# Altium schematic symbol library charger.SchLib: 4 symbols
Pins are listed as number, name and electrical type; pins without a type are passive.

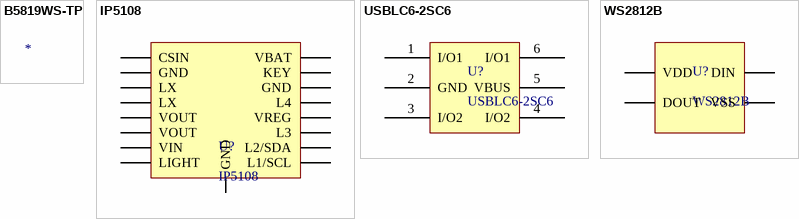
[diagram p0: symbols B5819WS-TP to WS2812B]

## B5819WS-TP
designator *  (value not drawn)
DIODE SCHOTTKY 40V 1A SOD323; Manufacturer: MCC; Manufacturer Part Number: B5819WS-TP; Forward Voltage: 900mV; Element Configuration: Single; Max Reverse Leakage Current: 1mA; Peak Non-Repetitive Surge Current: 10A; Supplier 1: Mouser; RoHS: Yes; Category: Rectifier Diodes; Stock 1: 4684; Pricing 1: 1=0,39000, 10=0,25300, 50=0,25300, 100=0,11200, 1000=0,08300, 10000=0,05600 (USD); Mount: Surface Mount; Number of Pins: 2; Min Operating Temperature: -65°C; Max Operating Temperature: 125°C; Average Rectified Current: 1A; Package Quantity: 1; Packaging: Tape and Reel; Max Reverse Voltage (DC): 40V; Max Surge Current: 10A; Radiation Hardening: No; Lead Free: Lead Free; ComponentLink1URL: https://datasheet.ciiva.com/4715/b5817ws-b5819wssod-323-48861-4715941.pdf?src-supplier=Mouser; ComponentLink1Description: https://datasheet.ciiva.com/4715/b5817ws-b5819wssod-323-48861-4715941.pdf?src-supplier=Mouser; ComponentLink2URL: https://datasheet.ciiva.com/912/b5817ws-b5819wssod-323-912736.pdf?src-supplier=Digi-Key; ComponentLink2Description: https://datasheet.ciiva.com/912/b5817ws-b5819wssod-323-912736.pdf?src-supplier=Digi-Key; ComponentLink3URL: https://datasheet.ciiva.com/912/b5817ws-b5819wssod-323-912737.pdf?src-supplier=Digi-Key; ComponentLink3Description: https://datasheet.ciiva.com/912/b5817ws-b5819wssod-323-912737.pdf?src-supplier=Digi-Key; ComponentLink4URL: https://datasheet.ciiva.com/15200/getdatasheetpartid-184930-15200423.pdf?src-supplier=Verical; ComponentLink4Description: https://datasheet.ciiva.com/15200/getdatasheetpartid-184930-15200423.pdf?src-supplier=Verical; ComponentLink5URL: https://datasheet.ciiva.com/912/b5817ws-b5819wssod-323-912735.pdf?src-supplier=Digi-Key; ComponentLink5Description: https://datasheet.ciiva.com/912/b5817ws-b5819wssod-323-912735.pdf?src-supplier=Digi-Key; Supplier Part Number 1: 833-B5819WS-TP

## IP5108
designator U?
SOP-16_150mil PMIC - Battery Management RoHS; Manufacturer: INJOINIC; ComponentLink3Description: LCSC LINK; ComponentLink3URL: https://lcsc.com/product-detail/PMIC-Battery-Management_INJOINIC-IP5108_C180943.html; ComponentLink4Description: Datasheet; ComponentLink4URL: http://www.injoinic.com/wwwroot/uploads/files/20200221/5edb08a79152c9ee2ca8ea29a5d5ad25.pdf; Category: Battery Management; Package: SOP-16_150mil; RoHS: YES; LCSC Part #: C180943; Mfr.Part #: IP5108
footprint SOP-16_150mil (SOP, 16-Leads, Body 9,90x3,90mm, Pitch 1,27mm, Thermal Pad 4,57x2,41mm, IPC Medium Density)
pins: 1 CSIN, 2 GND, 3 LX, 4 LX, 5 VOUT, 6 VOUT, 7 VIN, 8 LIGHT, 9 L1/SCL, 10 L2/SDA, 11 L3, 12 VREG, 13 L4, 14 GND, 15 KEY, 16 VBAT, 17 GND

## USBLC6-2SC6
designator U?
USBLC6 Series 4 Line 6 V Uni / Bi-Directional ESD Protection - SOT-23-6; Manufacturer: STMicroelectronics; Capacitance: 4pF; Direction: Unidirectional; Clamping Voltage: 17V; Number of Bidirectional Channels: 4; Reverse Standoff Voltage: 5V; Min Breakdown Voltage: 6V; Power Line Protection: Yes; Leakage Current: 150nA; Peak Pulse Current: 5A; Operating Supply Voltage: 860mV; Test Current: 1mA; Max Reverse Leakage Current: 2uA; Number of Elements: 1; Polarity: Unidirectional,Bidirectional; Max Breakdown Voltage: 10V; Supplier 1: Avnet; Manufacturer Part Number: USBLC6-2SC6; RoHS: Yes; Category: ESD and Circuit Protection ICs; Stock 1: 147000; Pricing 1: 3000=0,24113, 6000=0,23936, 12000=0,23732, 18000=0,23404, 24000=0,23049, 30000=0,22872, 300000=0,22694 (USD); Mount: Surface Mount; Case/Package: SOT-23; Number of Pins: 6; Contact Plating: Tin,Matte; Weight: 0.01lb; Min Operating Temperature: -40°C; Max Operating Temperature: 125°C; Package Quantity: 3000; Packaging: Tape and Reel; Number of Channels: 4; Breakdown Voltage: 6V; Termination: SMD/SMT; ESD Protection: Yes; Reverse Breakdown Voltage: 6V; Working Voltage: 5V; Voltage Rating (DC): 5V; Length: 3mm; Width: 1.75mm; Height: 1.3mm; Depth: 1.75mm; Radiation Hardening: No; Lead Free: Lead Free; REACH SVHC: No SVHC; ComponentLink1URL: https://datasheet.ciiva.com/16206/cd00047494-16206119.pdf?src-supplier=Future+Electronics; ComponentLink1Description: https://datasheet.ciiva.com/16206/cd00047494-16206119.pdf?src-supplier=Future+Electronics; ComponentLink2URL: https://datasheet.ciiva.com/14186/usblc6-4-st-eng-tds-14186570.pdf?src-supplier=Distrelec; ComponentLink2Description: https://datasheet.ciiva.com/14186/usblc6-4-st-eng-tds-14186570.pdf?src-supplier=Distrelec; ComponentLink3URL: https://datasheet.ciiva.com/4507/cd00047494-112581-4507757.pdf?src-supplier=Mouser; ComponentLink3Description: https://datasheet.ciiva.com/4507/cd00047494-112581-4507757.pdf?src-supplier=Mouser; ComponentLink4URL: https://datasheet.ciiva.com/27052/1493951-27052291.pdf?src-supplier=Jameco; ComponentLink4Description: https://datasheet.ciiva.com/27052/1493951-27052291.pdf?src-supplier=Jameco; ComponentLink5URL: https://datasheet.ciiva.com/15143/getdatasheetpartid-88767-15143364.pdf?src-supplier=Verical; ComponentLink5Description: https://datasheet.ciiva.com/15143/getdatasheetpartid-88767-15143364.pdf?src-supplier=Verical; ComponentLink6URL: https://datasheet.ciiva.com/1220/48344-1220005.pdf?src-supplier=Newark; ComponentLink6Description: https://datasheet.ciiva.com/1220/48344-1220005.pdf?src-supplier=Newark; ComponentLink7URL: https://datasheet.ciiva.com/26787/usblc6-4sc6-26787917.pdf?src-supplier=IIIC; ComponentLink7Description: https://datasheet.ciiva.com/26787/usblc6-4sc6-26787917.pdf?src-supplier=IIIC; ComponentLink8URL: https://datasheet.ciiva.com/22692/1498406-22692454.pdf?src-supplier=Element14; ComponentLink8Description: https://datasheet.ciiva.com/22692/1498406-22692454.pdf?src-supplier=Element14; ComponentLink9URL: https://datasheet.ciiva.com/22685/1498406-22685833.pdf?src-supplier=Element14; ComponentLink9Description: https://datasheet.ciiva.com/22685/1498406-22685833.pdf?src-supplier=Element14; Supplier Part Number 1: USBLC6-2SC6
footprint SOT23-6L (SOT23, 6-Leads, Body 2,90x2,80mm, Pitch 0,95mm, IPC Medium Density)
pins: 1 I/O1, 2 GND, 3 I/O2, 4 I/O2, 5 VBUS, 6 I/O1

## WS2812B
designator U?
WS2812B 5050 RGB LED WITH INTEGRATED DRIVER CHIP PACK OF 10; Manufacturer: Adafruit Industries; Manufacturer Part Number: 1655; Number of LEDs: 10; Supplier 1: Mouser; RoHS: Yes; Category: LEDs; Stock 1: 1980; Pricing 1: 1=4,50000, 10=4,50000, 50=4,50000, 100=4,50000, 1000=4,50000, 10000=4,50000 (USD); Mount: Surface Mount; Color: Blue,Green,Red; Length: 5mm; Width: 5mm; ComponentLink1URL: http://www.mouser.com/ds/2/737/SK6812_LED_datasheet_-953546.pdf?src-supplier=Mouser; ComponentLink1Description: http://www.mouser.com/ds/2/737/SK6812_LED_datasheet_-953546.pdf?src-supplier=Mouser; ComponentLink2URL: https://cdn-shop.adafruit.com/product-files/1138/SK6812+LED+datasheet+.pdf?src-supplier=Digi-Key; ComponentLink2Description: https://cdn-shop.adafruit.com/product-files/1138/SK6812+LED+datasheet+.pdf?src-supplier=Digi-Key; Supplier Part Number 1: 485-1655
pins: 1 VDD, 2 DOUT, 3 VSS, 4 DIN